# Altium footprint library IM3332.PcbLib: 1 footprints
Each footprint in its own frame and in the unit in brackets; x right, y up, seen from the top. Pads: shape width x height; smd on the part's side, far side on the other; paste and mask are expansions set on the pad; w line width, h text height; cw(c..) or ccw(c..) is an arc to the next point about the centre after c.
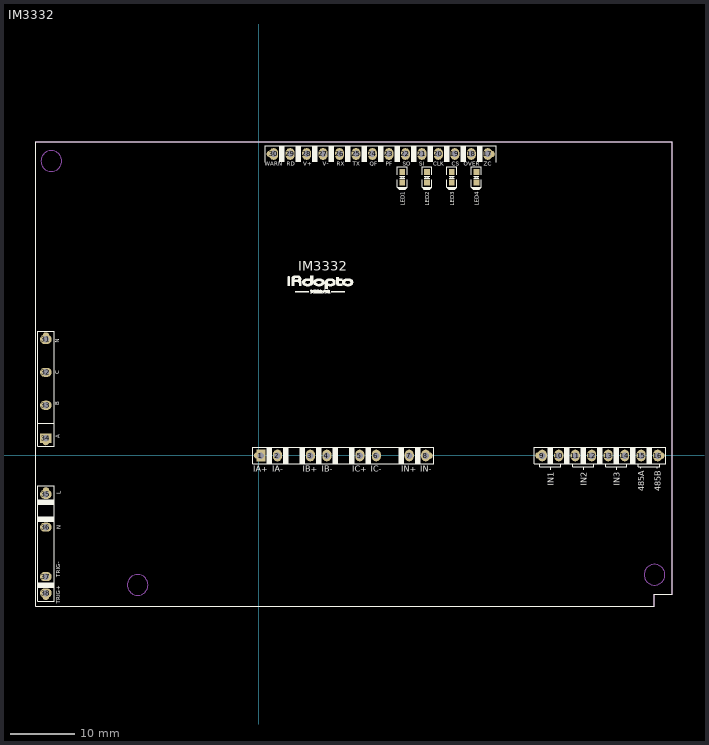
[diagram p0: the footprint, top view; thin cyan lines are the x and y axes]

## IM3332 [mm]
pads (56):
  oval 1.5x1 hole 0.254: 1(0,0) 8(26.07,-0.026) 9(43.371,0) 16(61.821,-0.026) 17(35.642,46.468) 30(1.952,46.494)
  rect 1.4x1.8 hole 1: 1(0.335,-0.013)
  rect 0.9x0.9 smd: 1(22.116,43.726) 1(25.926,43.726) 1(29.736,43.726) 1(33.546,43.726) 2(22.116,42.1) 2(25.926,42.1) 2(29.736,42.1) 2(33.546,42.1)
  oval 1.4x1.8 hole 1: 2(2.875,-0.013) 3(7.955,-0.013) 4(10.495,-0.013) 5(15.575,-0.013) 6(18.115,-0.013) 7(23.195,-0.013) 8(25.735,-0.013) 9(43.706,-0.013) 10(46.246,-0.013) 11(48.786,-0.013) 12(51.326,-0.013) 13(53.866,-0.013) 14(56.406,-0.013) 15(58.946,-0.013) 16(61.486,-0.013) 17(35.307,46.481) 18(32.767,46.481) 19(30.227,46.481) 20(27.687,46.481) 21(25.147,46.481) 22(22.607,46.481) 23(20.067,46.481) 24(17.527,46.481) 25(14.987,46.481) 26(12.447,46.481) 27(9.907,46.481) 28(7.367,46.481) 29(4.827,46.481) 30(2.287,46.481)
  oval 1.8x1.4 hole 1: 31(-32.824,17.898) 32(-32.824,12.818) 33(-32.824,7.738) 35(-32.824,-5.982) 36(-32.824,-11.062) 37(-32.824,-18.682) 38(-32.824,-21.222)
  oval 1x1.5 hole 0.254: 31(-32.811,18.233) 34(-32.837,2.323) 37(-32.811,-5.647) 38(-32.837,-21.557)
  rect 1.8x1.4 hole 1: 34(-32.824,2.658)
Top Overlay:
  drawing of 871 lines, arcs and shapes, not listed
  text "LED4" at 33.909,38.481 h0.64
  text "LED3" at 30.099,38.481 h0.64
  text "LED2" at 26.289,38.481 h0.64
  text "LED1" at 22.479,38.481 h0.64
  text "N" at -31.376,18.021 h0.64
  text "C" at -30.767,12.535 h0.64
  text "B" at -30.767,7.759 h0.64
  text "A" at -30.69,2.658 h0.64
  text "IA-" at 2.05,-2.528 h0.91
  text "IA+" at -0.871,-2.502 h0.91
  text "IB+" at 6.749,-2.502 h0.91
  text "IB-" at 9.67,-2.503 h0.91
  text "IC+" at 14.395,-2.502 h0.91
  text "IC-" at 17.29,-2.502 h0.91
  text "IN+" at 21.989,-2.502 h0.91
  text "IN-" at 24.91,-2.503 h0.91
  text "OVER" at 31.565,44.64 h0.64
  text "CS" at 29.711,44.64 h0.64
  text "CLK" at 26.917,44.64 h0.64
  text "SI" at 24.728,44.64 h0.64
  text "SO" at 22.192,44.652 h0.64
  text "PF" at 19.602,44.652 h0.64
  text "QF" at 17.087,44.666 h0.64
  text "TX" at 14.509,44.666 h0.64
  text "RX" at 12.032,44.666 h0.64
  text "V-" at 9.861,44.64 h0.64
  text "V+" at 6.876,44.666 h0.64
  text "RD" at 4.336,44.691 h0.64
  text "WARN" at 0.882,44.666 h0.64
  text "ZC" at 34.677,44.64 h0.64
  text "IN1" at 45.459,-4.636 h0.91
  text "485A" at 59.429,-5.55 h0.91
  text "IN2" at 50.59,-4.687 h0.91
  text "IN3" at 55.67,-4.687 h0.91
  text "485B" at 61.969,-5.55 h0.91
  text "TRIG+" at -30.614,-22.848 h0.64
  text "TRIG-" at -30.589,-18.784 h0.64
  text "N" at -31.173,-10.732 h0.64
  text "L" at -30.538,-5.977 h0.64
  text "IM3332" at 6.071,27.947 h2.54
Bottom Overlay:
  rectangle: 1.2,-1.283 2.038,1.257
  region: -31.554,-7.657 -31.554,-6.819 -34.094,-6.819 -34.094,-7.657
  region: -31.554,-10.237 -31.554,-9.399 -34.094,-9.399 -34.094,-10.237
  region: -31.554,-20.397 -31.554,-19.559 -34.094,-19.559 -34.094,-20.397
  rectangle: 28.552,45.211 29.39,47.751
  rectangle: 26.012,45.211 26.85,47.751
  rectangle: 23.472,45.211 24.31,47.751
  rectangle: 20.932,45.211 21.77,47.751
  rectangle: 3.152,45.211 3.99,47.751
  rectangle: 5.692,45.211 6.53,47.751
  rectangle: 8.232,45.211 9.07,47.751
  rectangle: 10.772,45.211 11.61,47.751
  rectangle: 13.312,45.211 14.15,47.751
  rectangle: 15.852,45.211 16.69,47.751
  rectangle: 18.392,45.211 19.23,47.751
  rectangle: 31.092,45.211 31.93,47.751
  rectangle: 33.632,45.211 34.47,47.751
  region: 45.381,1.257 44.543,1.257 44.543,-1.283 45.381,-1.283
  region: 47.921,1.257 47.083,1.257 47.083,-1.283 47.921,-1.283
  region: 50.461,1.257 49.623,1.257 49.623,-1.283 50.461,-1.283
  region: 53.001,1.257 52.163,1.257 52.163,-1.283 53.001,-1.283
  region: 55.541,1.257 54.703,1.257 54.703,-1.283 55.541,-1.283
  region: 58.081,1.257 57.243,1.257 57.243,-1.283 58.081,-1.283
  region: 60.621,1.257 59.783,1.257 59.783,-1.283 60.621,-1.283
  rectangle: 3.74,-1.283 4.578,1.257
  rectangle: 6.28,-1.283 7.118,1.257
  rectangle: 8.82,-1.283 9.658,1.257
  rectangle: 11.36,-1.283 12.198,1.257
  rectangle: 13.9,-1.283 14.738,1.257
  rectangle: 16.44,-1.283 17.278,1.257
  rectangle: 24.06,-1.283 24.898,1.257
  rectangle: 21.52,-1.283 22.358,1.257
Mechanical 1:
  circle w0.127: c-18.682,-19.963 r1.6
  circle w0.127: c61.011,-18.388 r1.6
  lines w0.127: -30.392,45.391 cw(c-31.992,45.391) -30.392,45.402 ; -34.379,-23.255 -34.379,48.374 63.715,48.374 63.715,-21.374 60.972,-21.374 60.972,-23.255 -34.379,-23.255
3D body: height 3, standoff -8.54, extent -34.094,-12.332 -31.554,-9.792
3D body: height 3, standoff -8.54, extent -34.094,-7.252 -31.554,-4.712
3D body: height 3, standoff -8.54, extent -34.094,-22.492 -31.554,-19.952
3D body: height 3, standoff -8.54, extent -34.094,-19.992 -31.554,-17.452
3D body: height 3, standoff -8.54, extent 34.037,45.211 36.577,47.751
3D body: height 3, standoff -8.54, extent 31.497,45.211 34.037,47.751
3D body: height 3, standoff -8.54, extent 28.957,45.211 31.497,47.751
3D body: height 3, standoff -8.54, extent 26.417,45.211 28.957,47.751
3D body: height 3, standoff -8.54, extent 23.877,45.211 26.417,47.751
3D body: height 3, standoff -8.54, extent 21.337,45.211 23.877,47.751
3D body: height 3, standoff -8.54, extent 18.797,45.211 21.337,47.751
3D body: height 3, standoff -8.54, extent 16.257,45.211 18.797,47.751
3D body: height 3, standoff -8.54, extent 13.717,45.211 16.257,47.751
3D body: height 3, standoff -8.54, extent 11.177,45.211 13.717,47.751
3D body: height 3, standoff -8.54, extent 8.637,45.211 11.177,47.751
3D body: height 3, standoff -8.54, extent 6.097,45.211 8.637,47.751
3D body: height 3, standoff -8.54, extent 3.557,45.211 6.097,47.751
3D body: height 3, standoff -8.54, extent 1.017,45.211 3.557,47.751
3D body: height 3, standoff -8.54, extent -34.094,11.548 -31.554,14.088
3D body: height 3, standoff -8.54, extent -34.094,16.628 -31.554,19.168
3D body: height 3, standoff -8.54, extent -34.094,6.468 -31.554,9.008
3D body: height 3, standoff -8.54, extent -34.094,1.388 -31.554,3.928
3D body: height 3, standoff -8.54, extent 60.216,-1.283 62.756,1.257
3D body: height 3, standoff -8.54, extent 57.676,-1.283 60.216,1.257
3D body: height 3, standoff -8.54, extent 55.136,-1.283 57.676,1.257
3D body: height 3, standoff -8.54, extent 52.596,-1.283 55.136,1.257
3D body: height 3, standoff -8.54, extent 50.056,-1.283 52.596,1.257
3D body: height 3, standoff -8.54, extent 47.516,-1.283 50.056,1.257
3D body: height 3, standoff -8.54, extent 44.976,-1.283 47.516,1.257
3D body: height 3, standoff -8.54, extent 42.436,-1.283 44.976,1.257
3D body: height 3, standoff -8.54, extent 14.305,-1.283 16.845,1.257
3D body: height 3, standoff -8.54, extent 9.225,-1.283 11.765,1.257
3D body: height 3, standoff -8.54, extent 6.685,-1.283 9.225,1.257
3D body: height 3, standoff -8.54, extent -0.935,-1.283 1.605,1.257
3D body: height 3, standoff -8.54, extent 1.605,-1.283 4.145,1.257
3D body: height 3, standoff -8.54, extent 16.845,-1.283 19.385,1.257
3D body: height 3, standoff -8.54, extent 24.465,-1.283 27.005,1.257
3D body: height 3, standoff -8.54, extent 21.925,-1.283 24.465,1.257
3D body: height 0.36, standoff 0, extent 33.15,42.092 33.95,43.692
3D body: height 0.36, standoff 0, extent 29.34,42.092 30.14,43.692
3D body: height 0.36, standoff 0, extent 25.53,42.092 26.33,43.692
3D body: height 0.36, standoff 0, extent 21.72,42.092 22.52,43.692